# Altium schematic symbol library ITS5215L.SchLib: 1 symbol
Pins are listed as number, name and electrical type; pins without a type are passive.

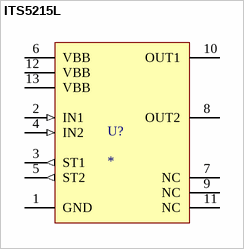
[diagram p0: symbol ITS5215L]

## ITS5215L
designator U?
INFINEON - ITS5215L - HIGH SIDE SWITCH, DUAL, NN CH, DSO12; farnell: 1426197
footprint ITS5215L (INFINEON - ITS5215L - HIGH SIDE SWITCH, DUAL, NN CH, DSO12)
pins: 1 GND (power), 2 IN1 (in), 3 ST1 (out), 4 IN2 (in), 5 ST2 (out), 6 VBB (power), 7 NC, 8 OUT2, 9 NC, 10 OUT1, 11 NC, 12 VBB (power), 13 VBB (power)